# EAGLE library part IV-12 (library 23K_candrian)
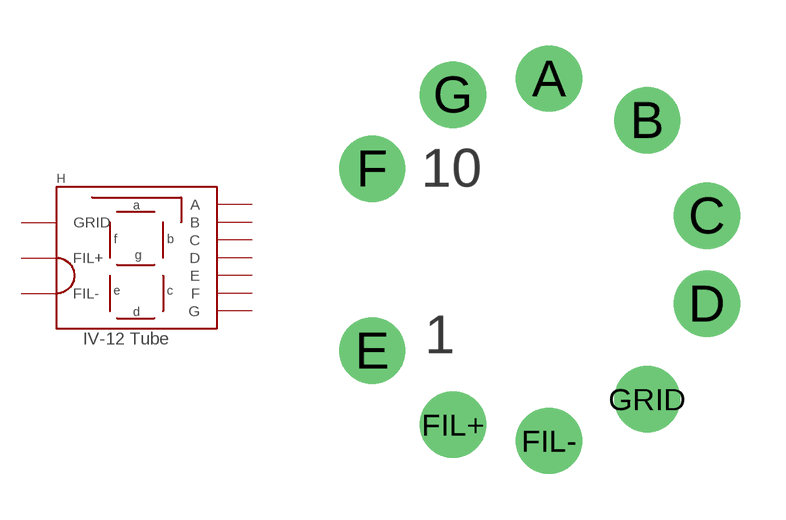
[diagram p4: symbol with the pads of IV-12; footprint IV-12]

Designator prefix H

## IV-12  [IV-12]
A  A
B  B
C  C
D  D
E  E
F  F
FIL+  FIL+
FIL-  FIL-
G  G
GRID  GRID

## Footprint IV-12 (pad centres in mm)
Eagle SCR autogenerated 11 pin Nixie socket
drill 1.1 pad 2.184: A 0.707,5.887; B 3.936,4.516; C 5.901,1.371; D 5.901,-1.531; E -5.116,-3.08; F -5.116,2.92; FIL+ -2.455,-5.517; FIL- 0.707,-6.047; G -2.455,5.357; GRID 3.936,-4.676